# Altium schematic symbol library Holder,Fuse,Cartridge,10A,Thru.Schlib: 1 symbol
Pins are listed as number, name and electrical type; pins without a type are passive.

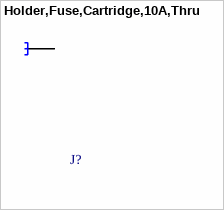
[diagram p0: symbol Holder,Fuse,Cartridge,10A,Thru]

## Holder,Fuse,Cartridge,10A,Thru
designator J?
pins: 1